# Altium footprint library DCDCReg.PcbLib: 17 footprints (part 1 of 2)
Each footprint in its own frame and in the unit in brackets; x right, y up, seen from the top. Pads: shape width x height; smd on the part's side, far side on the other; paste and mask are expansions set on the pad; w line width, h text height; cw(c..) or ccw(c..) is an arc to the next point about the centre after c.
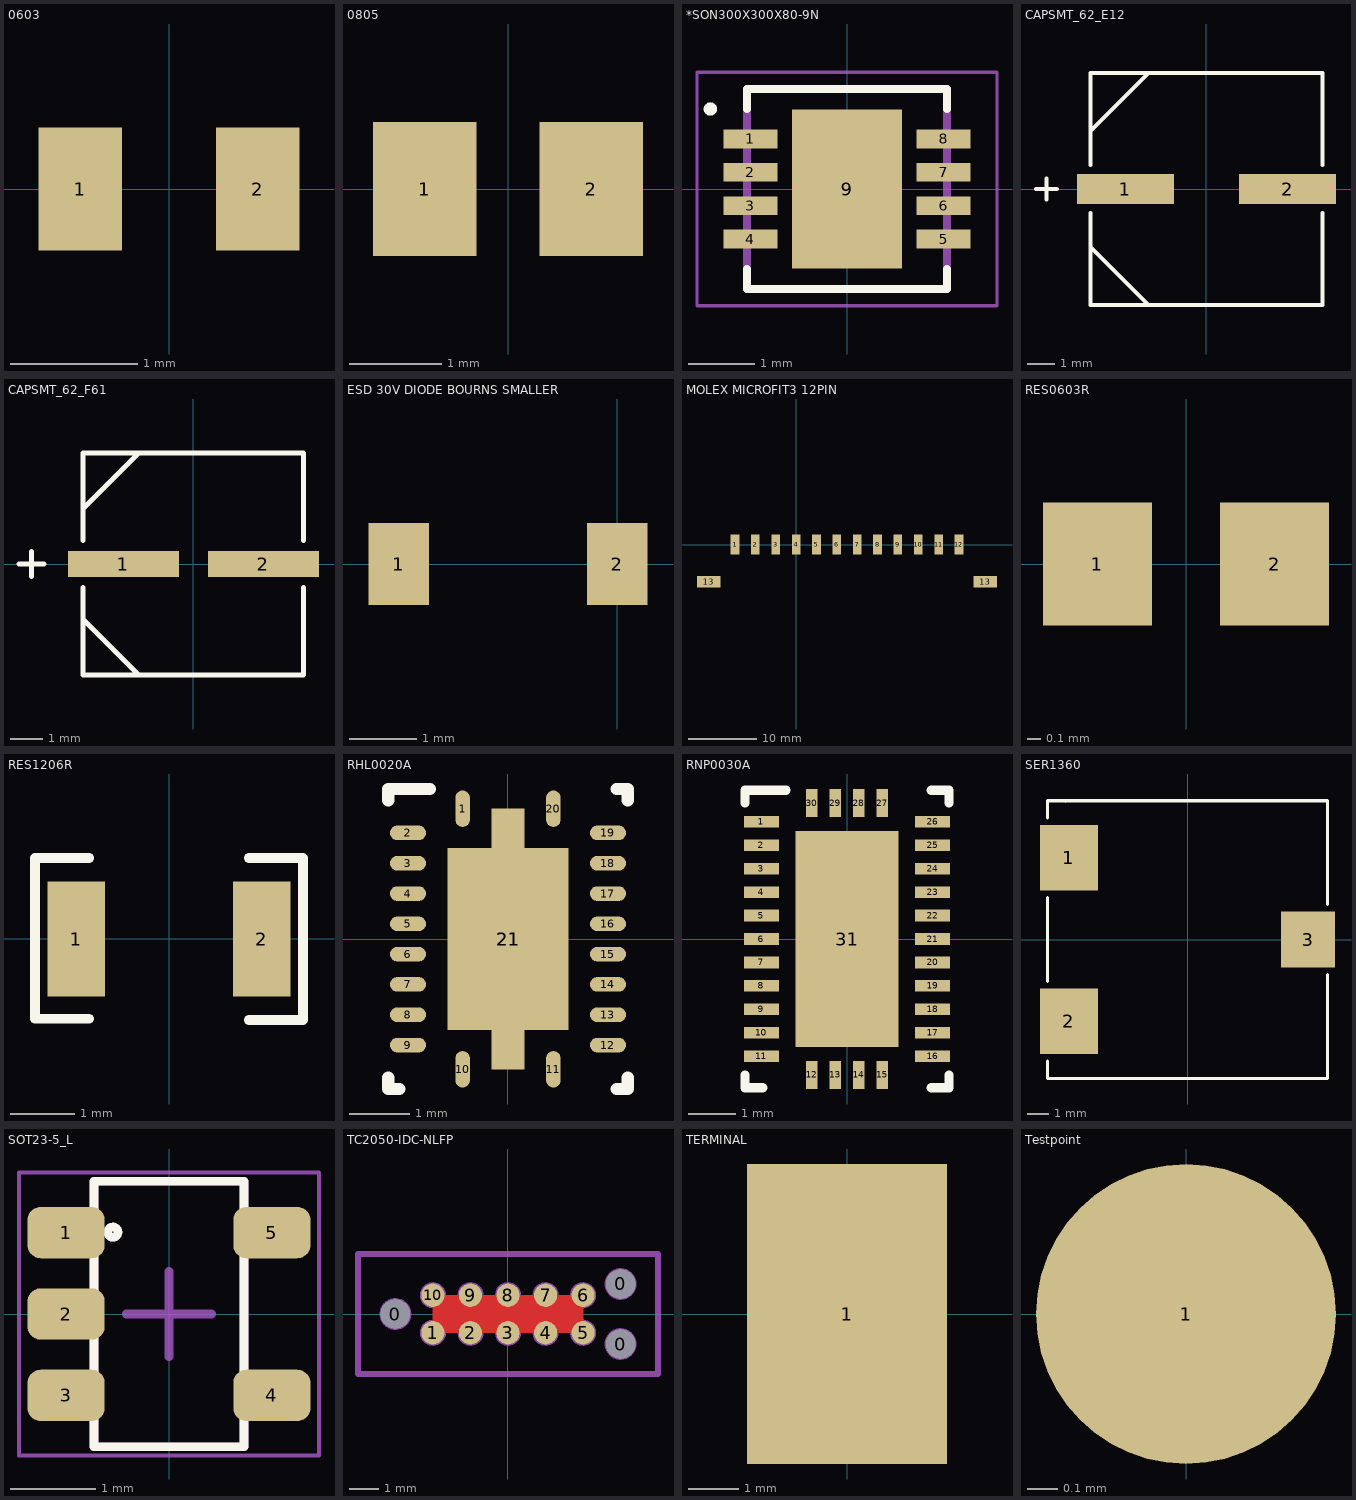
[diagram p0: the footprints below, top view; thin cyan lines are the x and y axes]

## 0603 [mil]
pads (2):
  rect 26x38 smd: 1(-27.5,0) 2(27.5,0)
3D body "0603.stp": height 20, standoff 0, extent -34.5,-19 34.5,19

## 0805 [mil]
pads (2):
  rect 44x57 smd: 1(-35.5,0) 2(35.5,0)
3D body "0805.stp": height 57, standoff 0, extent -43.5,-28.5 43.5,28.5

## *SON300X300X80-9N [mm]
pads (9):
  rect 0.81x0.28 smd: 1(-1.45,0.75) 2(-1.45,0.25) 3(-1.45,-0.25) 4(-1.45,-0.75) 5(1.45,-0.75) 6(1.45,-0.25) 7(1.45,0.25) 8(1.45,0.75)
  rect 1.65x2.38 smd: 9(0,0)
Top Overlay:
  circle w0.1: c-2.05,1.2 r0.05
  lines w0.127: -1.5,-1.2 -1.5,-1.5 1.5,-1.5 1.5,-1.2 ; -1.5,1.2 -1.5,1.5 1.5,1.5 1.5,1.2
Top Paste:
  region: -0.501,0.75 0.5,0.75 0.5,-0.751 -0.501,-0.751
Mechanical 4:
  lines w0.127: -1.5,-1.5 -1.5,1.5 ; -1.5,-1.5 1.5,-1.5 ; -1.5,-1.5 -1.5,1.5 ; -1.5,-1.5 1.5,-1.5 ; -1.5,1.5 1.5,1.5 ; -1.5,1.5 1.5,1.5 ; 1.5,-1.5 1.5,1.5 ; 1.5,-1.5 1.5,1.5
Mechanical 16:
  lines w0.05: -2.25,-1.75 -2.25,1.75 2.25,1.75 2.25,-1.75 -2.25,-1.75
3D body "LT3473EDD#PBF--3DModel-STEP-56544.STEP": height 0.75, standoff -0.05, extent -1.5,-1.5 1.5,1.5

## CAPSMT_62_E12 [mil]
pads (2):
  rect 140x43 smd: 1(-117,0) 2(117,0)
Top Overlay:
  lines w6: -246,0 -216,0 ; -231,-15 -231,15 ; -167.5,-83.75 -83.75,-167.5 ; -167.5,-34.6 -167.5,-167.5 167.5,-167.5 167.5,-34.6 ; -167.5,34.6 -167.5,167.5 167.5,167.5 167.5,34.6 ; -167.5,83.75 -83.75,167.5
3D body "CAPSMT_62_E12.stp": height 474, standoff 0, extent -181,-167.5 181,167.5

## CAPSMT_62_F61 [mil]
pads (2):
  rect 134x31 smd: 1(-84.5,0) 2(84.5,0)
Top Overlay:
  lines w6: -210.5,0 -180.5,0 ; -195.5,-15 -195.5,15 ; -133,-67 -66,-134 ; -133,-28.6 -133,-134 133,-134 133,-28.6 ; -133,28.6 -133,134 133,134 133,28.6 ; -133,67 -66,134
3D body "CAPSMT_62_F61.stp": height 242, standoff 0, extent -145.5,-134 145.5,134

## ESD 30V DIODE BOURNS SMALLER [mm]
pads (2):
  rect 0.91x1.22 smd: 1(-3.27,0) 2(0,0)
3D body "SOD-123FL.STEP": height 1.35, standoff 0, extent -3.56,-1.076 0.29,1.077

## MOLEX MICROFIT3 12PIN [mm]
pads (14):
  rect 1.27x2.92 smd: 1(-9,0) 2(-6,0) 3(-3,0) 4(0,0) 5(3,0) 6(6,0) 7(9,0) 8(12,0) 9(15,0) 10(18,0) 11(21,0) 12(24,0)
  rect 3.43x1.65 smd: 13(-12.885,-5.47) 13(27.885,-5.47)
3D body "436501212.stp": height 5.64, standoff -0.04, extent -14.375,-10.1 29.275,0.64

## RES0603R [mm]
pads (2):
  rect 0.8x0.9 smd: 1(-0.65,0) 2(0.65,0)
3D body "res0603.stp": height 0.45, standoff 0, extent -0.8,-0.4 0.8,0.4

## RES1206R [mm]
pads (2):
  rect 0.9x1.8 smd: 1(-1.45,0) 2(1.45,0)
Top Overlay:
  lines w0.152: -1.25,-1.25 -2.1,-1.25 -2.1,1.27 -1.25,1.27 ; 1.25,-1.27 2.1,-1.27 2.1,1.27 1.25,1.27
3D body "RES1206.stp": height 0.55, standoff 0, extent -1.5,-0.775 1.6,0.777

## RHL0020A [mm]
pads (22):
  oval 0.24x0.6 smd paste-0.102 mask+0.051: 1(-0.75,2.15) 10(-0.75,-2.15) 11(0.75,-2.15) 20(0.75,2.15)
  oval 0.6x0.24 smd paste-0.102 mask+0.051: 2(-1.65,1.75) 3(-1.65,1.25) 4(-1.65,0.75) 5(-1.65,0.25) 6(-1.65,-0.25) 7(-1.65,-0.75) 8(-1.65,-1.25) 9(-1.65,-1.75) 12(1.65,-1.75) 13(1.65,-1.25) 14(1.65,-0.75) 15(1.65,-0.25) 16(1.65,0.25) 17(1.65,0.75) 18(1.65,1.25) 19(1.65,1.75)
  rect 2x3 smd paste+0 mask+0: 21(0,0)
  rect 0.55x4.3 smd mask+0: 21(0,0)
Top Overlay:
  lines w0.2: -1.975,-2.29 -1.975,-2.475 -1.79,-2.475 ; -1.975,2.29 -1.975,2.475 -1.29,2.475 ; 1.79,-2.475 1.975,-2.475 1.975,-2.29 ; 1.79,2.475 1.975,2.475 1.975,2.29
Top Paste:
  region: 0.1,-0.1 0.1,-1.428 1.017,-1.428 1.017,-0.1
  region: -0.1,-1.428 -0.1,-0.1 -1.017,-0.1 -1.017,-1.428
  region: -0.1,0.1 -0.1,1.428 -1.017,1.428 -1.017,0.1
  region: 0.1,1.428 0.1,0.1 1.017,0.1 1.017,1.428
  region: -0.39,1.925 -0.39,1.628 0.39,1.628 0.39,1.925
  region: -0.39,-1.628 -0.39,-1.925 0.39,-1.925 0.39,-1.628
3D body: height 0.25, standoff 0, extent 0,0 0.254,0.254
3D body "TPS61088RHLT--3DModel-STEP-56544.STEP": height 0.95, standoff -0.05, extent -1.75,-2.25 1.75,2.25

## RNP0030A [mm]
pads (31):
  rect 0.75x0.25 smd paste+0 mask+0: 1(-1.825,2.5) 2(-1.825,2) 3(-1.825,1.5) 4(-1.825,1) 5(-1.825,0.5) 6(-1.825,0) 7(-1.825,-0.5) 8(-1.825,-1) 9(-1.825,-1.5) 10(-1.825,-2) 11(-1.825,-2.5) 16(1.825,-2.5) 17(1.825,-2) 18(1.825,-1.5) 19(1.825,-1) 20(1.825,-0.5) 21(1.825,0) 22(1.825,0.5) 23(1.825,1) 24(1.825,1.5) 25(1.825,2) 26(1.825,2.5)
  rect 0.25x0.6 smd paste+0 mask+0: 12(-0.75,-2.9) 13(-0.25,-2.9) 14(0.25,-2.9) 15(0.75,-2.9) 27(0.75,2.9) 28(0.25,2.9) 29(-0.25,2.9) 30(-0.75,2.9)
  rect 2.2x4.6 smd paste-2.287 mask+0: 31(0,0)
Top Overlay:
  lines w0.2: -2.175,-2.9 -2.175,-3.175 -1.8,-3.175 ; -2.175,2.9 -2.175,3.175 -1.3,3.175 ; 1.8,-3.175 2.175,-3.175 2.175,-2.9 ; 1.8,3.175 2.175,3.175 2.175,2.9
Top Paste:
  drawing of 8 lines, arcs and shapes, not listed
3D body: height 0.25, standoff 0, extent 0,0 0.254,0.254
3D body "RNP0030A.stp": height 0.77, standoff -0.03, extent -2,-3 2,3

## SER1360 [mil]
pads (3):
  rect 106x120 smd: 1(-217,149.5) 2(-217,-149.5)
  rect 99x102 smd: 3(220.5,0)
Top Overlay:
  lines w6: -256,-222.6 -256,-254 256,-254 256,-64.1 ; -256,-76.4 -256,76.4 ; -256,222.6 -256,254 256,254 256,64.1
  text "*" at -227,244.5 h11.81
3D body "SER1360.stp": height 67.1, standoff 0, extent -267.75,-254 267.75,254

## SOT23-5_L [mm]
pads (5):
  rrect50% 0.9x0.6 smd: 1(-1.2,0.95) 2(-1.2,0) 3(-1.2,-0.95) 4(1.2,-0.95) 5(1.2,0.95)
Top Overlay:
  circle w0.1: c-0.655,0.955 r0.06
  lines w0.1: -0.9,-1.1 -1.325,-1.1 -1.325,-0.8 -0.9,-0.8 ; -0.875,-0.15 -1.3,-0.15 -1.3,0.15 -0.875,0.15 ; -0.875,0.8 -1.3,0.8 -1.3,1.1 -0.875,1.1 ; 0.875,-1.1 1.3,-1.1 1.3,-0.8 0.875,-0.8 ; 0.875,0.8 1.3,0.8 1.3,1.1 0.875,1.1 ; -0.875,-1.55 0.875,-1.55 0.875,1.55 -0.875,1.55 -0.875,-1.55
Mechanical 13:
  circle w0.1: c-0.655,0.955 r0.06
  lines w0.1: -0.9,-1.1 -1.325,-1.1 -1.325,-0.8 -0.9,-0.8 ; -0.875,-0.15 -1.3,-0.15 -1.3,0.15 -0.875,0.15 ; -0.875,0.8 -1.3,0.8 -1.3,1.1 -0.875,1.1 ; 0.875,-1.1 1.3,-1.1 1.3,-0.8 0.875,-0.8 ; 0.875,0.8 1.3,0.8 1.3,1.1 0.875,1.1 ; -0.875,-1.55 -0.875,1.55 0.875,1.55 0.875,-1.55 -0.875,-1.55
Mechanical 15:
  lines w0.05: -1.75,-1.65 1.75,-1.65 1.75,1.65 -1.75,1.65 -1.75,-1.65
  lines w0.1: -0.5,0 0.5,0 ; 0,-0.5 0,0.5
3D body: height 1.45, standoff 0.09, extent -0.875,-1.55 0.875,1.55
3D body: height 1.45, standoff 0, extent -0.714,0.896 -0.596,1.014
3D body "sot23.stp": height 1.2, standoff 0, extent -1.4,-1.45 1.4,1.45

## TC2050-IDC-NLFP [mil]
pads (13):
  round 39 hole 39 unplated: 0(-150,0) 0(150,-40) 0(150,40)
  round 31 smd paste-196.85: 1(-100,-25) 2(-50,-25) 3(0,-25) 4(50,-25) 5(100,-25) 6(100,25) 7(50,25) 8(0,25) 9(-50,25) 10(-100,25)
Top Layer:
  pour cut-out: -100,25 -100,-25 100,-25 100,25
Mechanical 7:
  circle w3.94: c-100,24.99 r15.45
  circle w3.94: c-100,-24.99 r15.45
  circle w3.94: c-50,-24.99 r15.45
  circle w3.94: c0,-24.99 r15.45
  circle w3.94: c0,24.99 r15.45
  circle w3.94: c-50,24.99 r15.45
  circle w3.94: c50,24.99 r15.45
  circle w3.94: c50,-24.99 r15.45
  circle w3.94: c100,-24.99 r15.45
  circle w3.94: c100,24.99 r15.45
  circle w3.94: c150,-39.98 r19.26
  circle w3.94: c150,39.98 r19.26
  circle w3.94: c-150,0 r19.26
  text ".Designator" at -35.43,-64.96 h15
Mechanical 8:
  circle w3.94: c-150,0 r19.26
  circle w3.94: c150,39.98 r19.26
  circle w3.94: c150,-39.98 r19.26
Mechanical 15:
  lines w7.87: -199.8,-79.92 -199.8,79.92 199.8,79.92 199.8,-79.92 -199.8,-79.92

## TERMINAL [mm]
pads (1):
  rect 4x6 smd: 1(0,0)

## Testpoint [mm]
pads (1):
  round 1 smd: 1(0,0)